# Altium footprint library pulser_driver_footprints.PcbLib: 56 footprints (part 4 of 4)
Each footprint in its own frame and in the unit in brackets; x right, y up, seen from the top. Pads: shape width x height; smd on the part's side, far side on the other; paste and mask are expansions set on the pad; w line width, h text height; cw(c..) or ccw(c..) is an arc to the next point about the centre after c.
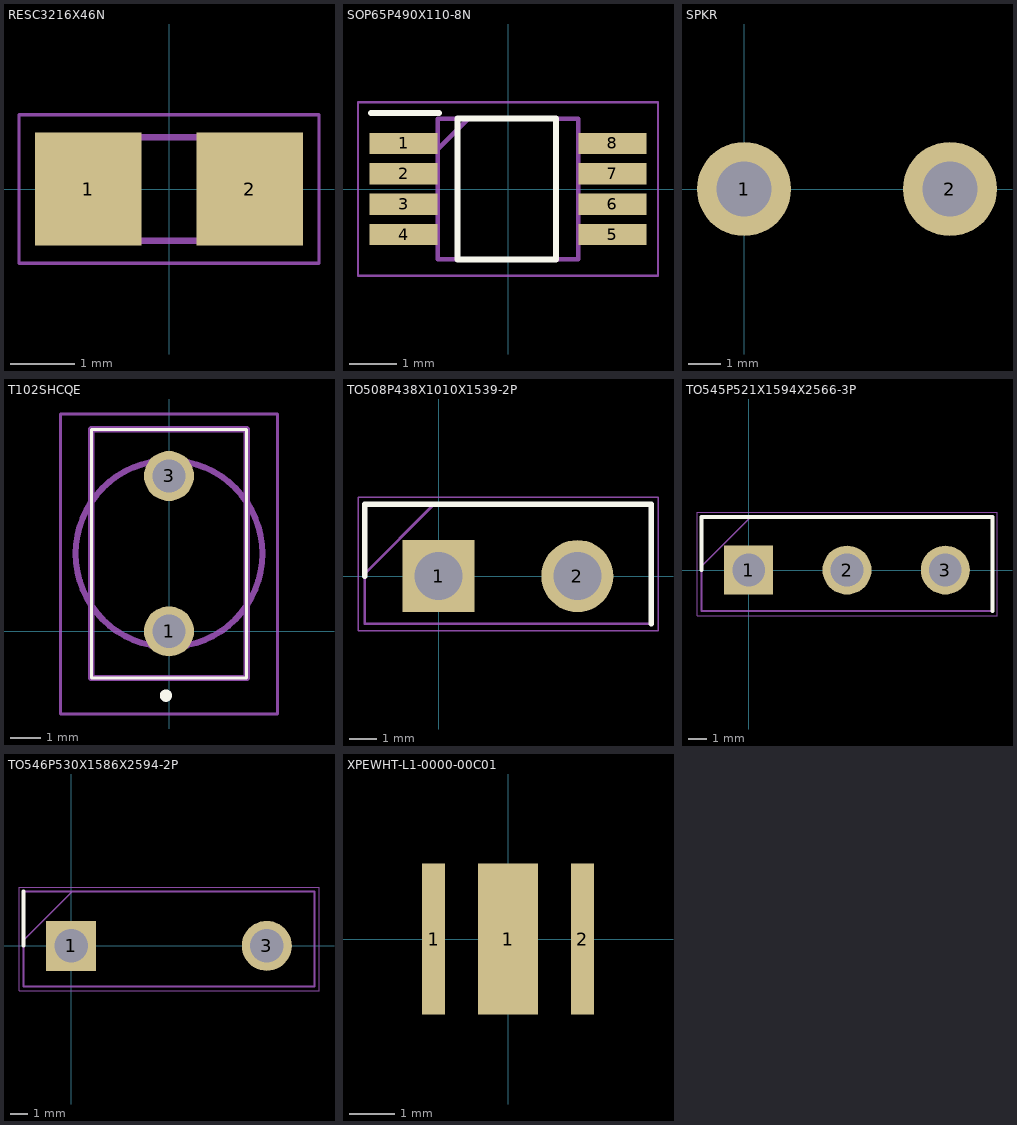
[diagram p3: the footprints below, top view; thin cyan lines are the x and y axes]

## RESC3216X46N [mm]
pads (2):
  rect 1.65x1.75 smd: 1(-1.25,0) 2(1.25,0)
Mechanical 13:
  lines w0.1: -1.601,-0.8 1.601,-0.8 1.601,0.8 -1.601,0.8 -1.601,-0.8
Mechanical 15:
  lines w0.05: -2.325,-1.15 2.325,-1.15 2.325,1.15 -2.325,1.15 -2.325,-1.15
3D body "PCNM1206K2R00FST5.stp": height 0.46, standoff 0, extent -1.601,-0.8 1.601,0.8

## SOP65P490X110-8N [mm]
pads (8):
  rect 1.45x0.45 smd: 1(-2.225,0.975) 2(-2.225,0.325) 3(-2.225,-0.325) 4(-2.225,-0.975) 5(2.225,-0.975) 6(2.225,-0.325) 7(2.225,0.325) 8(2.225,0.975)
Top Overlay:
  lines w0.127: -2.925,1.625 -1.475,1.625 ; -1.075,-1.5 1.025,-1.5 1.025,1.5 -1.075,1.5 -1.075,-1.5
Mechanical 13:
  lines w0.1: -1.5,0.85 -0.85,1.5 ; -1.5,-1.5 -1.5,1.5 1.5,1.5 1.5,-1.5 -1.5,-1.5
Mechanical 15:
  lines w0.05: -3.2,-1.85 -3.2,1.85 3.2,1.85 3.2,-1.85 -3.2,-1.85
3D body "ADP3333ARMZ-5-R7.stp": height 1.1, standoff 0, extent -2.45,-1.5 2.45,1.5

## SPKR [mm]
pads (2):
  round 2.9 hole 1.7: 1(0,0) 2(6.35,0)

## T102SHCQE [mm]
pads (2):
  round 1.635 hole 1.09: 1(0,0) 3(0,5.08)
Top Overlay:
  lines w0.1: -2.54,-1.525 -2.54,6.605 2.54,6.605 2.54,-1.525 -2.54,-1.525
  lines w0.2: -0.2,-2.1 cw(c-0.1,-2.1) 0,-2.1 cw(c-0.1,-2.1) -0.2,-2.1
Mechanical 13:
  lines w0.2: -3.05,2.54 cw(c0,2.54) 3.05,2.54 cw(c0,2.54) -3.05,2.54 ; -2.54,-1.525 -2.54,6.605 2.54,6.605 2.54,-1.525 -2.54,-1.525
Mechanical 15:
  lines w0.1: -3.55,-2.7 -3.55,7.105 3.55,7.105 3.55,-2.7 -3.55,-2.7
3D body "T102SHCQE.stp": height 23.66, standoff -5, extent -3.05,-1.525 3.05,6.605

## TO508P438X1010X1539-2P [mm]
pads (2):
  rect 2.64x2.64 hole 1.76: 1(0,0)
  round 2.64 hole 1.76: 2(5.08,0)
Top Overlay:
  lines w0.2: -2.7,0 -2.7,2.63 7.78,2.63 7.78,-1.75
Mechanical 13:
  lines w0.1: -2.7,0.09 -0.16,2.63 ; -2.7,-1.75 7.78,-1.75 7.78,2.63 -2.7,2.63 -2.7,-1.75
Mechanical 15:
  lines w0.05: -2.95,-2 8.03,-2 8.03,2.88 -2.95,2.88 -2.95,-2
3D body "pwr220t-20.stp": height 15.4, standoff -12.9, extent -2.51,-2.095 7.59,1.905

## TO545P521X1594X2566-3P [mm]
pads (3):
  rect 2.715x2.715 hole 1.81: 1(0,0)
  round 2.715 hole 1.81: 2(5.45,0) 3(10.9,0)
Top Overlay:
  lines w0.2: -2.615,0 -2.615,2.94 13.515,2.94 13.515,-2.27
Mechanical 13:
  lines w0.1: -2.615,0.215 0.11,2.94 ; -2.615,-2.27 13.515,-2.27 13.515,2.94 -2.615,2.94 -2.615,-2.27
Mechanical 15:
  lines w0.05: -2.865,-2.52 13.765,-2.52 13.765,3.19 -2.865,3.19 -2.865,-2.52
3D body "IXBX75N170.stp": height 25.13, standoff -42.14, extent -2.52,-2.27 13.42,2.94

## TO546P530X1586X2594-2P [mm]
pads (2):
  rect 2.79x2.79 hole 1.86: 1(0,0)
  round 2.79 hole 1.86: 3(10.92,0)
Top Overlay:
  lines w0.2: -2.66,0 -2.66,3.035
Mechanical 13:
  lines w0.1: -2.66,0.305 0.07,3.035 ; -2.66,-2.265 13.58,-2.265 13.58,3.035 -2.66,3.035 -2.66,-2.265
Mechanical 15:
  lines w0.05: -2.91,-2.515 13.83,-2.515 13.83,3.285 -2.91,3.285 -2.91,-2.515
3D body "DSDI60-18A.stp": height 25.61, standoff -42.24, extent -2.47,-2.265 13.39,3.035

## XPEWHT-L1-0000-00C01 [mm]
pads (3):
  rect 0.5x3.3 smd: 1(-1.625,0) 2(1.625,0)
  rect 1.3x3.3 smd: 1(0,0)
3D body "CircuitWorks-LED 1206.STEP": height 1.1, standoff 0, extent -1.6,-0.8 1.6,0.8